# EAGLE library part FPC-22WAY (library pimoroni-fpc)
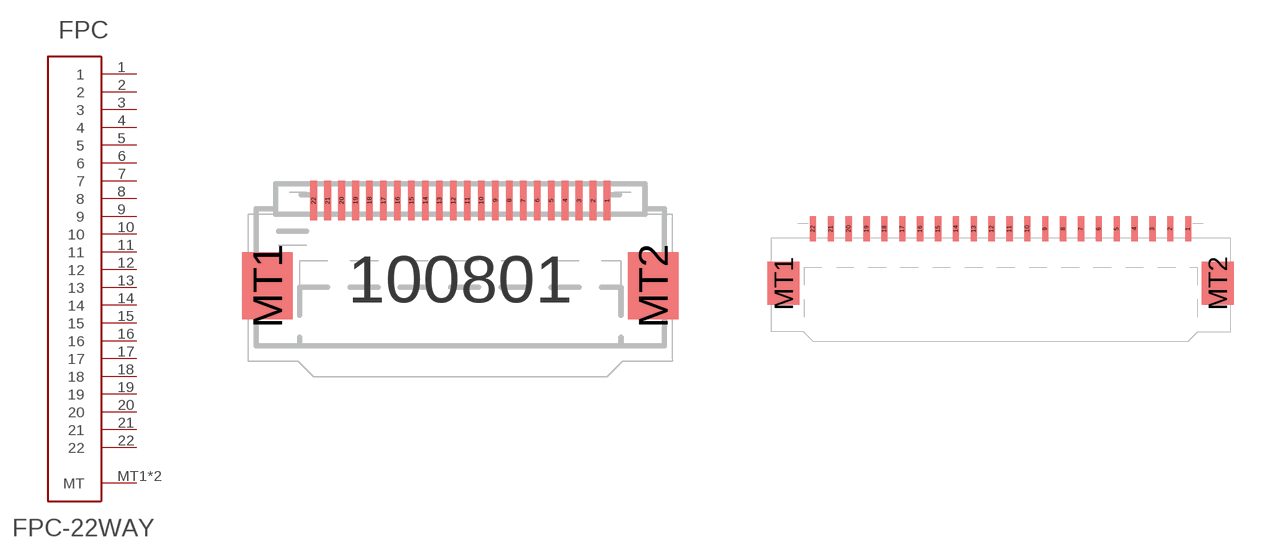
[diagram p17: symbol with the pads of FPC-0.5MM-22WAY; footprints FPC-0.5MM-22WAY, FPC-1.0MM-22WAY]

Designator prefix FPC

## FPC-22WAY0.5  [FPC-0.5MM-22WAY]
1  1
2  2
3  3
4  4
5  5
6  6
7  7
8  8
9  9
10  10
11  11
12  12
13  13
14  14
15  15
16  16
17  17
18  18
19  19
20  20
21  21
22  22
MT1  MT
MT2  MT

## FPC-22WAY1.0  [FPC-1.0MM-22WAY]
Pads as for FPC-0.5MM-22WAY

## FPC-22WAYH1.0  [FPC-0.5MM-22WAY_H1.0]
Pads as for FPC-0.5MM-22WAY

## Footprint FPC-0.5MM-22WAY (pad centres in mm)
smd 0.24 x 1.4: 1 5.25,0.7; 2 4.75,0.7; 3 4.25,0.7; 4 3.75,0.7; 5 3.25,0.7; 6 2.75,0.7; 7 2.25,0.7; 8 1.75,0.7; 9 1.25,0.7; 10 0.75,0.7; 11 0.25,0.7; 12 -0.25,0.7; 13 -0.75,0.7; 14 -1.25,0.7; 15 -1.75,0.7; 16 -2.25,0.7; 17 -2.75,0.7; 18 -3.25,0.7; 19 -3.75,0.7; 20 -4.25,0.7; 21 -4.75,0.7; 22 -5.25,0.7
smd 1.8 x 2.4: MT1 -6.9,-2.35; MT2 6.9,-2.35

## Footprint FPC-1.0MM-22WAY (pad centres in mm)
smd 0.35 x 1.4: 1 10.5,0.7; 2 9.5,0.7; 3 8.5,0.7; 4 7.5,0.7; 5 6.5,0.7; 6 5.5,0.7; 7 4.5,0.7; 8 3.5,0.7; 9 2.5,0.7; 10 1.5,0.7; 11 0.5,0.7; 12 -0.5,0.7; 13 -1.5,0.7; 14 -2.5,0.7; 15 -3.5,0.7; 16 -4.5,0.7; 17 -5.5,0.7; 18 -6.5,0.7; 19 -7.5,0.7; 20 -8.5,0.7; 21 -9.5,0.7; 22 -10.5,0.7
smd 1.8 x 2.4: MT1 -12.15,-2.35; MT2 12.15,-2.35

## Footprint FPC-0.5MM-22WAY_H1.0 (pad centres in mm)
smd 0.25 x 0.65: 1 5.25,0.325; 2 4.75,0.325; 3 4.25,0.325; 4 3.75,0.325; 5 3.25,0.325; 6 2.75,0.325; 7 2.25,0.325; 8 1.75,0.325; 9 1.25,0.325; 10 0.75,0.325; 11 0.25,0.325; 12 -0.25,0.325; 13 -0.75,0.325; 14 -1.25,0.325; 15 -1.75,0.325; 16 -2.25,0.325; 17 -2.75,0.325; 18 -3.25,0.325; 19 -3.75,0.325; 20 -4.25,0.325; 21 -4.75,0.325; 22 -5.25,0.325
smd 0.4 x 1.15: MT1 -6.135,-2.485; MT2 6.135,-2.485